# EAGLE library part TFT_LCD-320X240 (library CEDT_JANUARY_2015_v6)
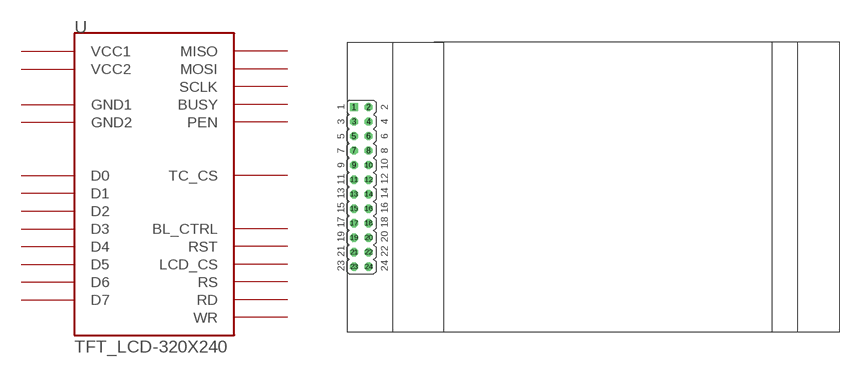
[diagram p77: symbol with the pads of PINHD-2X12; footprint PINHD-2X12]

Designator prefix -

## TFT_LCD-320X240  [PINHD-2X12]
1  GND1
2  VCC1
3  BL_CTRL
4  RST
5  LCD_CS
6  RS
7  WR
8  RD
9  TC_CS
10  SCLK
11  MISO
12  MOSI
13  BUSY
14  PEN
15  D1
16  D0
17  D3
18  D2
19  D5
20  D4
21  D7
22  D6
23  VCC2
24  GND2

## Footprint PINHD-2X12 (pad centres in mm)
drill 0.914 square: 1 1.27,39.37
drill 0.914 octagon: 2 3.81,39.37; 3 1.27,36.83; 4 3.81,36.83; 5 1.27,34.29; 6 3.81,34.29; 7 1.27,31.75; 8 3.81,31.75; 9 1.27,29.21; 10 3.81,29.21; 11 1.27,26.67; 12 3.81,26.67; 13 1.27,24.13; 14 3.81,24.13; 15 1.27,21.59; 16 3.81,21.59; 17 1.27,19.05; 18 3.81,19.05; 19 1.27,16.51; 20 3.81,16.51; 21 1.27,13.97; 22 3.81,13.97; 23 1.27,11.43; 24 3.81,11.43